# Altium footprint library PcbLib1.PcbLib: 28 footprints (part 2 of 2)
Each footprint in its own frame and in the unit in brackets; x right, y up, seen from the top. Pads: shape width x height; smd on the part's side, far side on the other; paste and mask are expansions set on the pad; w line width, h text height; cw(c..) or ccw(c..) is an arc to the next point about the centre after c.
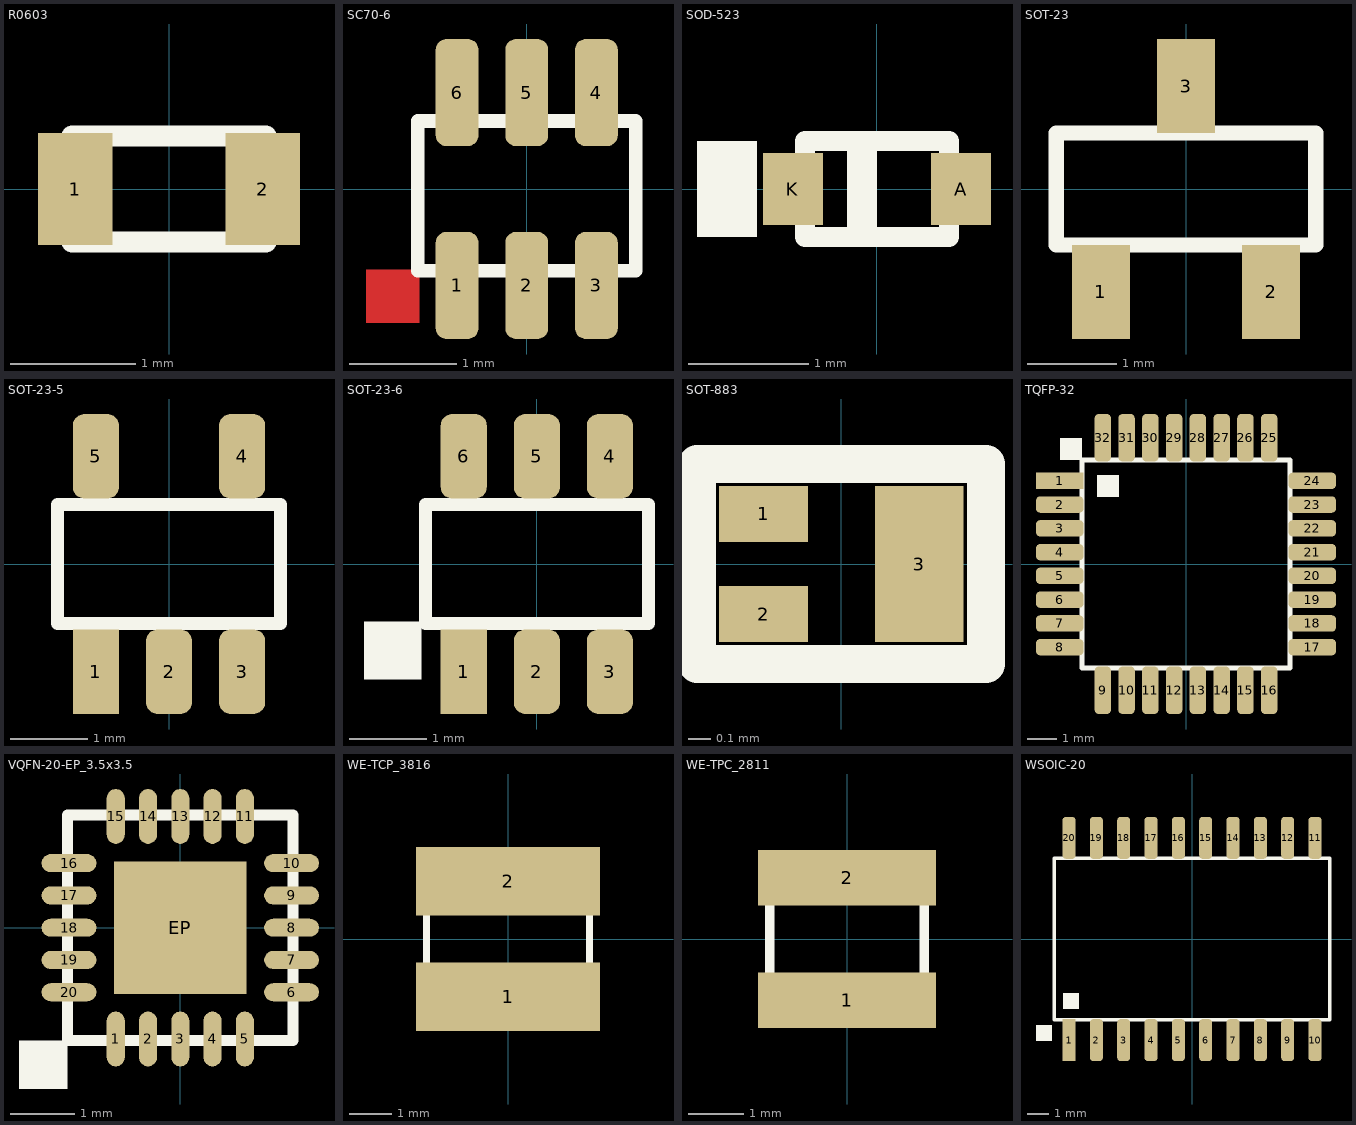
[diagram p1: the footprints below, top view; thin cyan lines are the x and y axes]

## R0603 [mm]
pads (2):
  rect 0.6x0.9 smd: 1(-0.75,0) 2(0.75,0)
Top Overlay:
  lines w0.17: -0.775,-0.425 0.775,-0.425 0.775,0.425 -0.775,0.425 -0.775,-0.425
3D body: height 0.43, standoff -0.03, extent -0.8,-0.4 0.8,0.4

## SC70-6 [mm]
pads (6):
  rrect50% 0.4x1 smd: 1(-0.65,-0.9) 2(0,-0.9) 3(0.65,-0.9) 4(0.65,0.9) 5(0,0.9) 6(-0.65,0.9)
Top Layer:
  rectangle: -1.5,-1.25 -1,-0.75
Top Overlay:
  lines w0.127: -1.016,-0.762 1.016,-0.762 1.016,0.635 -1.016,0.635 -1.016,-0.762
3D body: height 0.93, standoff -0.04, extent -1,-1.1 1,1.1

## SOD-523 [mm]
pads (2):
  rect 0.5x0.6 smd: A(0.7,0) K(-0.7,0)
Top Overlay:
  rectangle: -0.25,-0.4 0,0.4
  rectangle: -1.5,-0.4 -1,0.4
  lines w0.17: -0.6,-0.4 0.6,-0.4 0.6,0.4 -0.6,0.4 -0.6,-0.4
3D body: height 0.65, standoff 0, extent -0.825,-0.4 0.825,0.4

## SOT-23 [mm]
pads (3):
  rect 0.65x1.05 smd: 1(-0.95,-1.15) 2(0.95,-1.15) 3(0,1.15)
Top Overlay:
  lines w0.17: -1.45,-0.625 1.45,-0.625 1.45,0.625 -1.45,0.625 -1.45,-0.625
3D body: height 1.2, standoff 0.02, extent -1.5,-1.418 1.5,1.418

## SOT-23-5 [mm]
pads (5):
  rect 0.6x1.1 smd: 1(-0.95,-1.4)
  rrect50% 0.6x1.1 smd: 2(0,-1.4) 3(0.95,-1.4) 4(0.95,1.4) 5(-0.95,1.4)
Top Overlay:
  lines w0.17: -1.45,-0.775 1.45,-0.775 1.45,0.775 -1.45,0.775 -1.45,-0.775
3D body: height 1.2, standoff 0.02, extent -1.5,-1.418 1.5,1.418

## SOT-23-6 [mm]
pads (6):
  rect 0.6x1.1 smd: 1(-0.95,-1.4)
  rrect50% 0.6x1.1 smd: 2(0,-1.4) 3(0.95,-1.4) 4(0.95,1.4) 5(0,1.4) 6(-0.95,1.4)
Top Overlay:
  rectangle: -2.25,-1.5 -1.5,-0.75
  lines w0.17: -1.45,-0.775 1.45,-0.775 1.45,0.775 -1.45,0.775 -1.45,-0.775
3D body: height 1.2, standoff 0.02, extent -1.5,-1.418 1.5,1.418

## SOT-883 [mm]
pads (3):
  rect 0.4x0.25 smd paste-1 mask+0.05: 1(-0.35,0.225) 2(-0.35,-0.225)
  rect 0.4x0.7 smd paste-1 mask+0.05: 3(0.35,0)
Top Overlay:
  lines w0.17: -0.65,-0.45 0.65,-0.45 0.65,0.45 -0.65,0.45 -0.65,-0.45
Top Paste:
  rectangle: -0.5,-0.35 -0.2,-0.1
  rectangle: -0.5,0.1 -0.2,0.35
  rectangle: 0.2,-0.3 0.5,0.3
3D body: height 0.48, standoff -0.03, extent -0.492,-0.292 0.493,0.293

## TQFP-32 [mm]
pads (32):
  rect 1.6x0.55 smd: 1(-4.25,2.8)
  rrect50% 1.6x0.55 smd: 2(-4.25,2) 3(-4.25,1.2) 4(-4.25,0.4) 5(-4.25,-0.4) 6(-4.25,-1.2) 7(-4.25,-2) 8(-4.25,-2.8) 17(4.25,-2.8) 18(4.25,-2) 19(4.25,-1.2) 20(4.25,-0.4) 21(4.25,0.4) 22(4.25,1.2) 23(4.25,2) 24(4.25,2.8)
  rrect50% 0.55x1.6 smd: 9(-2.8,-4.25) 10(-2,-4.25) 11(-1.2,-4.25) 12(-0.4,-4.25) 13(0.4,-4.25) 14(1.2,-4.25) 15(2,-4.25) 16(2.8,-4.25) 25(2.8,4.25) 26(2,4.25) 27(1.2,4.25) 28(0.4,4.25) 29(-0.4,4.25) 30(-1.2,4.25) 31(-2,4.25) 32(-2.8,4.25)
Top Overlay:
  rectangle: -3,2.25 -2.25,3
  rectangle: -4.25,3.5 -3.5,4.25
  lines w0.17: -3.5,-3.5 -3.5,3.5 3.5,3.5 3.5,-3.5 -3.5,-3.5
3D body: height 1.2, standoff 0, extent -4.5,-4.5 4.5,4.5

## VQFN-20-EP_3.5x3.5 [mm] "VQFN, 20 pins + exposed pad, 3.5mm x 3.5mm body, 0.5mm pitch"
pads (21):
  oval 0.28x0.85 smd paste-0.04 mask+0.07: 1(-1,-1.725) 2(-0.5,-1.725) 3(0,-1.725) 4(0.5,-1.725) 5(1,-1.725) 11(1,1.725) 12(0.5,1.725) 13(0,1.725) 14(-0.5,1.725) 15(-1,1.725)
  oval 0.85x0.28 smd paste-0.04 mask+0.07: 6(1.725,-1) 7(1.725,-0.5) 8(1.725,0) 9(1.725,0.5) 10(1.725,1) 16(-1.725,1) 17(-1.725,0.5) 18(-1.725,0) 19(-1.725,-0.5) 20(-1.725,-1)
  rect 2.05x2.05 smd paste-5: EP(0,0)
Top Overlay:
  rectangle: -2.5,-2.5 -1.75,-1.75
  lines w0.17: -1.75,-1.75 1.75,-1.75 1.75,1.75 -1.75,1.75 -1.75,-1.75
Top Paste:
  rectangle: -1.05,0.15 -0.15,1.05
  rectangle: 0.15,0.15 1.05,1.05
  rectangle: 0.15,-1.05 1.05,-0.15
  rectangle: -1.05,-1.05 -0.15,-0.15
3D body: height 1.4, standoff 0, extent -1.88,-1.88 1.88,1.88

## WE-TCP_3816 [mm]
pads (2):
  rect 4.3x1.6 smd: 1(0,-1.35) 2(0,1.35)
Top Overlay:
  lines w0.17: -1.9,-1.9 1.9,-1.9 1.9,1.9 -1.9,1.9 -1.9,-1.9
3D body: height 1.65, standoff 0, extent -1.9,-1.9 1.9,1.9

## WE-TPC_2811 [mm]
pads (2):
  rect 3.2x1 smd: 1(0,-1.1) 2(0,1.1)
Top Overlay:
  lines w0.17: -1.39,-1.39 1.39,-1.39 1.39,1.39 -1.39,1.39 -1.39,-1.39
3D body: height 1.16, standoff 0, extent -1.39,-1.39 1.39,1.39

## WSOIC-20 [mm]
pads (20):
  rect 0.6x1.95 smd: 1(-5.715,-4.7)
  rrect50% 0.6x1.95 smd: 2(-4.445,-4.7) 3(-3.175,-4.7) 4(-1.905,-4.7) 5(-0.635,-4.7) 6(0.635,-4.7) 7(1.905,-4.7) 8(3.175,-4.7) 9(4.445,-4.7) 10(5.715,-4.7) 11(5.715,4.7) 12(4.445,4.7) 13(3.175,4.7) 14(1.905,4.7) 15(0.635,4.7) 16(-0.635,4.7) 17(-1.905,4.7) 18(-3.175,4.7) 19(-4.445,4.7) 20(-5.715,4.7)
Top Overlay:
  rectangle: -7.25,-4.75 -6.5,-4
  rectangle: -6,-3.25 -5.25,-2.5
  lines w0.17: -6.4,-3.75 -6.4,3.75 6.4,3.75 6.4,-3.75 -6.4,-3.75
3D body: height 2, standoff 0, extent -6.5,-5.081 6.5,5.082